# Altium schematic symbol library Microcontroller.SchLib: 11 symbols
Pins are listed as number, name and electrical type; pins without a type are passive.

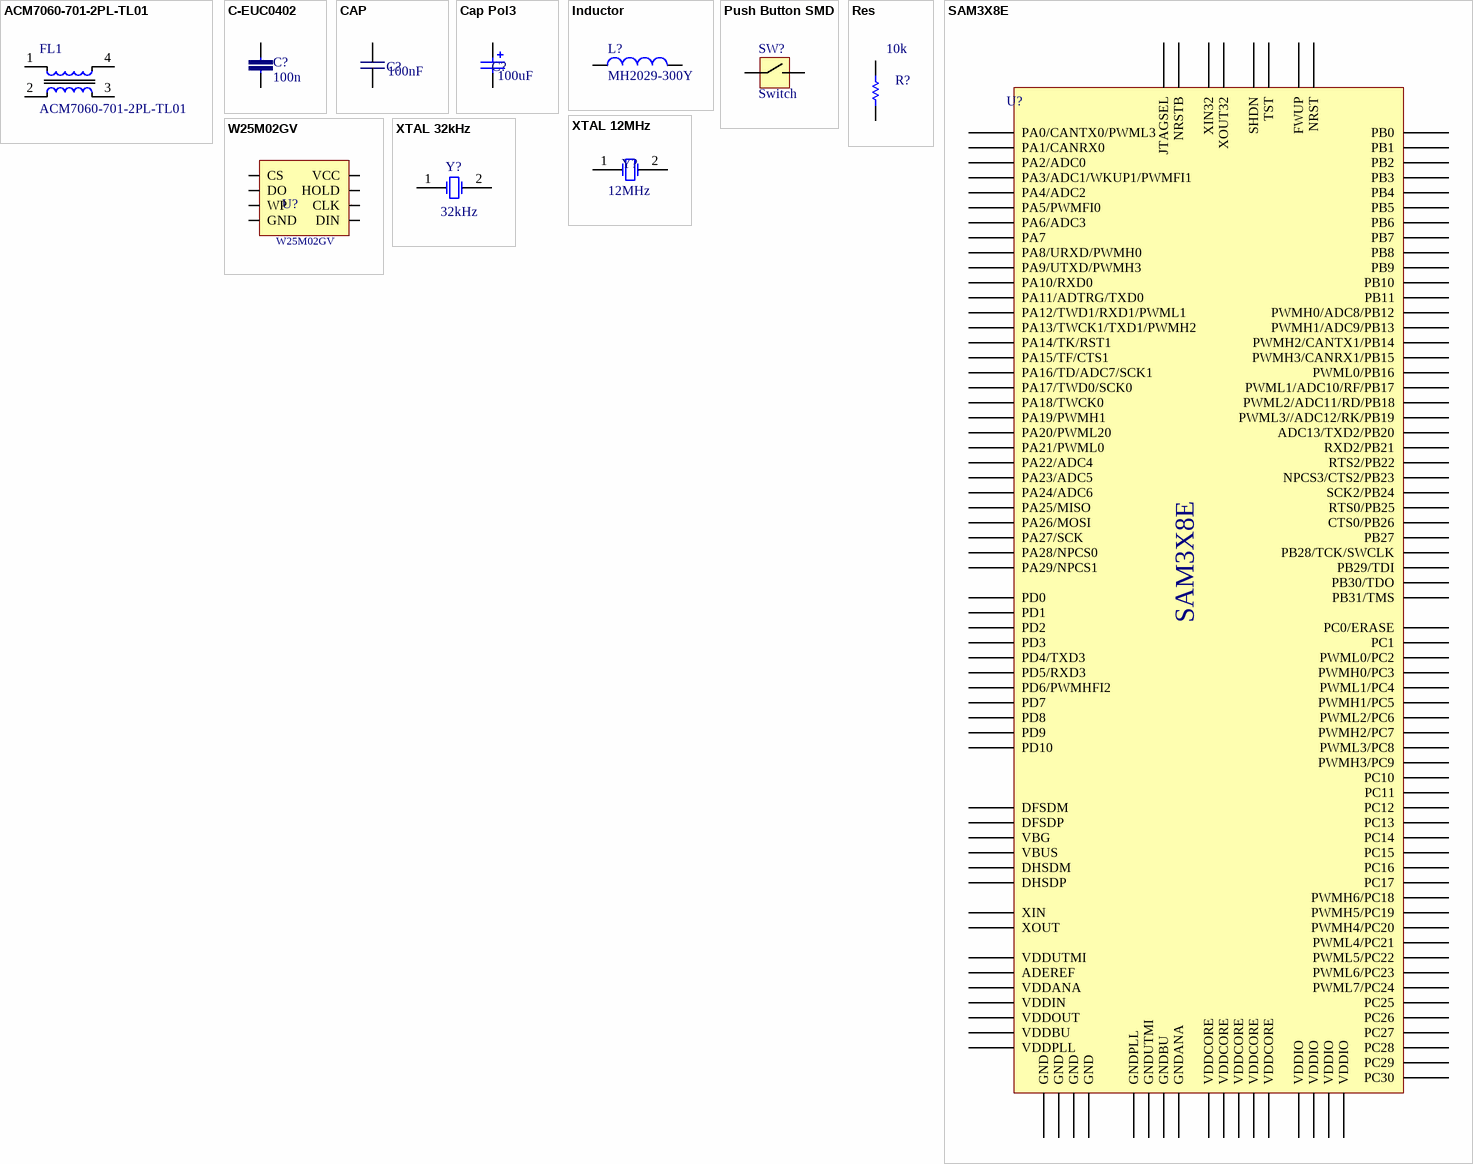
[diagram p0: symbols ACM7060-701-2PL-TL01 to XTAL 32kHz]

## ACM7060-701-2PL-TL01
designator FL1
Common Mode Chokes Dual 700Ohm 100MHz 4A 15mOhm DCR SMD Automotive T/R; MF: TDK; Price: 1.52 USD; Package: Horizontal-4 TDK; Availability: Good; SnapEDA_Link: https://www.snapeda.com/parts/ACM70V-701-2PL-TL00/TDK-Lambda%20Americas%20Inc/view-part/?ref=snap; MP: ACM7060-701-2PL-TL01; Value: *; AliExpress: https://www.aliexpress.com/item/5pcs-ACM7060-301-2PL-TL01-Common-mode-inductor-SMD-225-300ohm-5A-80V-7-6-3/32839585463.html?spm=2114.search0104.3.33.4201347dUtuEyh&ws_ab_test=searchweb0_0,searchweb201602_4_10152_10151_10065_10344_10068_5722815_10342_10343_10340_5722915_10341_10698_5722615_10697_10696_10084_10083_10618_10307_5722715_5711215_10059_10534_308_100031_10103_441_10624_10623_10622_5711315_5722515_10621_10620,searchweb201603_28,ppcSwitch_5&algo_expid=48d38db1-8f2c-4e5c-97db-65fd7beedc98-5&algo_pvid=48d38db1-8f2c-4e5c-97db-65fd7beedc98&transAbTest=ae803_1&priceBeautifyAB=0
footprint FIL_ACM7060-701-2PL-TL01
footprint FIL_ACM7060-701-2PL-TL01
pins: 1, 2, 3, 4

## C-EUC0402
designator C?, comment 100n
footprint 1608[0603] (Chip Capacitor, Body 1.6x0.8mm, IPC High Density)
pins: 1, 2

## CAP
designator C?, comment value 100nF  (hidden comment: Capacitor SMD)
Capsitance: *
footprint 6-0805_N (Chip Resistor, Body 2.0x1.2mm, IPC Medium Density)
pins: 1 (power), 2 (power)

## Cap Pol3
designator C?  value 100uF  (hidden comment: Cap Pol3)
Polarized Capacitor (Surface Mount); Published: 8-Jun-2000; LatestRevisionDate: 29-May-2009; LatestRevisionNote: IPC-7351 Footprint Added.; PackageReference: C0805; Publisher: Altium Limited; PackageDescription: Chip Capacitor
simulation model CAP (Capacitor)
signal-integrity model Cap Pol
footprint C1210_N (Chip Capacitor, Body 3.2x2.5mm, IPC Medium Density)
pins: 1, 2
1 alternate drawing of the same symbol

## Inductor
designator L?, comment MH2029-300Y
Code_IEC: 1005; Published: 8-Jun-2000; LatestRevisionDate: 29-May-2009; LatestRevisionNote: IPC-7351 Footprint Added.; PackageReference: 0402-A; Publisher: Altium Limited; PackageDescription: Chip Inductor; Code_JEITA: 0402
simulation model INDUCTOR (Inductor)
signal-integrity model Inductor
footprint C0805 (Chip Capacitor, Body 2.0x1.3mm, IPC High Density)
pins: 1, 2

## Push Button SMD
designator SW?, comment Switch  (net tie)
footprint SMD Switch
footprint SMD Switch
pins: 1, 2

## Res
designator R?, comment 10k
Resistor; Published: 8-Jun-2000; LatestRevisionDate: 17-Jul-2002; LatestRevisionNote: Re-released for DXP Platform.; PackageReference: AXIAL-0.3; Publisher: Altium Limited; PackageDescription: Axial Device, Thru-Hole; 2 Leads; 0.3 in Pin Spacing
simulation model RESISTOR (Resistor)
signal-integrity model Res
footprint 6-0805_N (Chip Resistor, Body 2.0x1.2mm, IPC Medium Density)
pins: 1, 2

## SAM3X8E
designator U?, comment ARM PROCESSOR  (value not drawn)
footprint 144L1_L (144-Pin Thin Quad Flat Pack 0.5 mm Pitch, IPC High Density)
pins: 1 CTS0/PB26, 2 PA9/UTXD/PWMH3, 3 PA10/RXD0, 4 PA11/ADTRG/TXD0, 5 PA12/TWD1/RXD1/PWML1, 6 PA13/TWCK1/TXD1/PWMH2, 7 PA14/TK/RST1, 8 PA15/TF/CTS1, 9 PA17/TWD0/SCK0, 10 VDDCORE, 11 VDDIO, 12 GND, 13 PD0, 14 PD1, 15 PD2, 16 PD3, 17 PD4/TXD3, 18 PD5/RXD3, 19 PD6/PWMHFI2, 20 PD7, 21 PD8, 22 PD9, 23 PA0/CANTX0/PWML3, 24 PA1/CANRX0, 25 PA5/PWMFI0, 26 PA7, 27 PA8/URXD/PWMH0, 28 PB28/TCK/SWCLK, 29 PB29/TDI, 30 PB30/TDO, 31 PB31/TMS, 32 PD10, 33 GNDPLL, 34 VDDPLL, 35 XOUT, 36 XIN, 37 DHSDP, 38 DHSDM, 39 VBUS, 40 VBG, 41 VDDUTMI, 42 DFSDP, 43 DFSDM, 44 GNDUTMI, 45 VDDCORE, 46 JTAGSEL, 47 NRSTB, 48 XIN32, 49 XOUT32, 50 SHDN, 51 TST, 52 VDDBU, 53 FWUP, 54 GNDBU, 55 PC1, 56 VDDOUT, 57 VDDIN, 58 GND, 59 PWML0/PC2, 60 PWMH0/PC3, 61 VDDCORE, 62 VDDIO, 63 PWMH1/PC5, 64 PWML2/PC6, 65 PWMH2/PC7, 66 PWML3/PC8, 67 PWMH3/PC9, 68 PB27, 69 NRST, 70 PA18/TWCK0, 71 PA19/PWMH1, 72 PA20/PWML20, 73 VDDANA, 74 GNDANA, 75 ADEREF, 76 PWMH3/CANRX1/PB15, 77 PWML0/PB16, 78 PA16/TD/ADC7/SCK1, 79 PA24/ADC6, 80 PA23/ADC5, 81 PA22/ADC4, 82 PA6/ADC3, 83 PA4/ADC2, 84 PA3/ADC1/WKUP1/PWMFI1, 85 PA2/ADC0, 86 PWMH0/ADC8/PB12, 87 PWMH1/ADC9/PB13, 88 PWML1/ADC10/RF/PB17, 89 PWML2/ADC11/RD/PB18, 90 PWML3//ADC12/RK/PB19, 91 ADC13/TXD2/PB20, 92 RXD2/PB21, 93 PC11, 94 PC12, 95 PC13, 96 PC14, 97 PC15, 98 PC16, 99 PC17, 100 PWMH6/PC18, 101 PWMH5/PC19, 102 PC29, 103 PC30, 104 VDDCORE, 105 VDDIO, 106 GND, 107 PA21/PWML0, 108 PA25/MISO, 109 PA26/MOSI, 110 PA27/SCK, 111 PA28/NPCS0, 112 PA29/NPCS1, 113 PB0, 114 PB1, 115 PB2, 116 PWML1/PC4, 117 PC10, 118 PB3, 119 PB4, 120 PB5, 121 PB6, 122 PB7, 123 PB8, 124 VDDCORE, 125 VDDIO, 126 GND, 127 PB9, 128 PB10, 129 PB11, 130 PC0/ERASE, 131 PWMH4/PC20, 132 PWML4/PC21, 133 PWML5/PC22, 134 PWML6/PC23, 135 PWML7/PC24, 136 PC25, 137 PC26, 138 PC27, 139 PC28, 140 PWMH2/CANTX1/PB14, 141 RTS2/PB22, 142 NPCS3/CTS2/PB23, 143 SCK2/PB24, 144 RTS0/PB25

## W25M02GV
designator U?  (value not drawn)
footprint Model Name (Footprint not found)
footprint 8x6-mm
pins: 1 CS, 2 DO, 3 WP, 4 GND, 5 DIN, 6 CLK, 7 HOLD, 8 VCC

## XTAL 12MHz
designator Y?  value 12MHz  (hidden comment: XTAL 12MHz)
Crystal Oscillator; Published: 8-Jun-2000; LatestRevisionDate: 17-Jul-2002; LatestRevisionNote: Re-released for DXP Platform.; PackageReference: R38; Publisher: Altium Limited
simulation model XTAL (Spice Subcircuit)
footprint CRYSTAL_HC49-US-SM (SMD Crystal HC49/US-SM package)
pins: 1 OSC1, 2 OSC2

## XTAL 32kHz
designator Y?  value 32kHz  (hidden comment: XTAL 32kHz)
Crystal Oscillator; Published: 8-Jun-2000; LatestRevisionDate: 17-Jul-2002; LatestRevisionNote: Re-released for DXP Platform.; PackageReference: R38; Publisher: Altium Limited
simulation model XTAL (Spice Subcircuit)
footprint 32.768 SMD Cryatal
pins: 1 OSC1, 2 OSC2